# Altium footprint library TerminalBlock_WAGO.PcbLib: 170 footprints (part 5 of 11)
Each footprint in its own frame and in the unit in brackets; x right, y up, seen from the top. Pads: shape width x height; smd on the part's side, far side on the other; paste and mask are expansions set on the pad; w line width, h text height; cw(c..) or ccw(c..) is an arc to the next point about the centre after c.
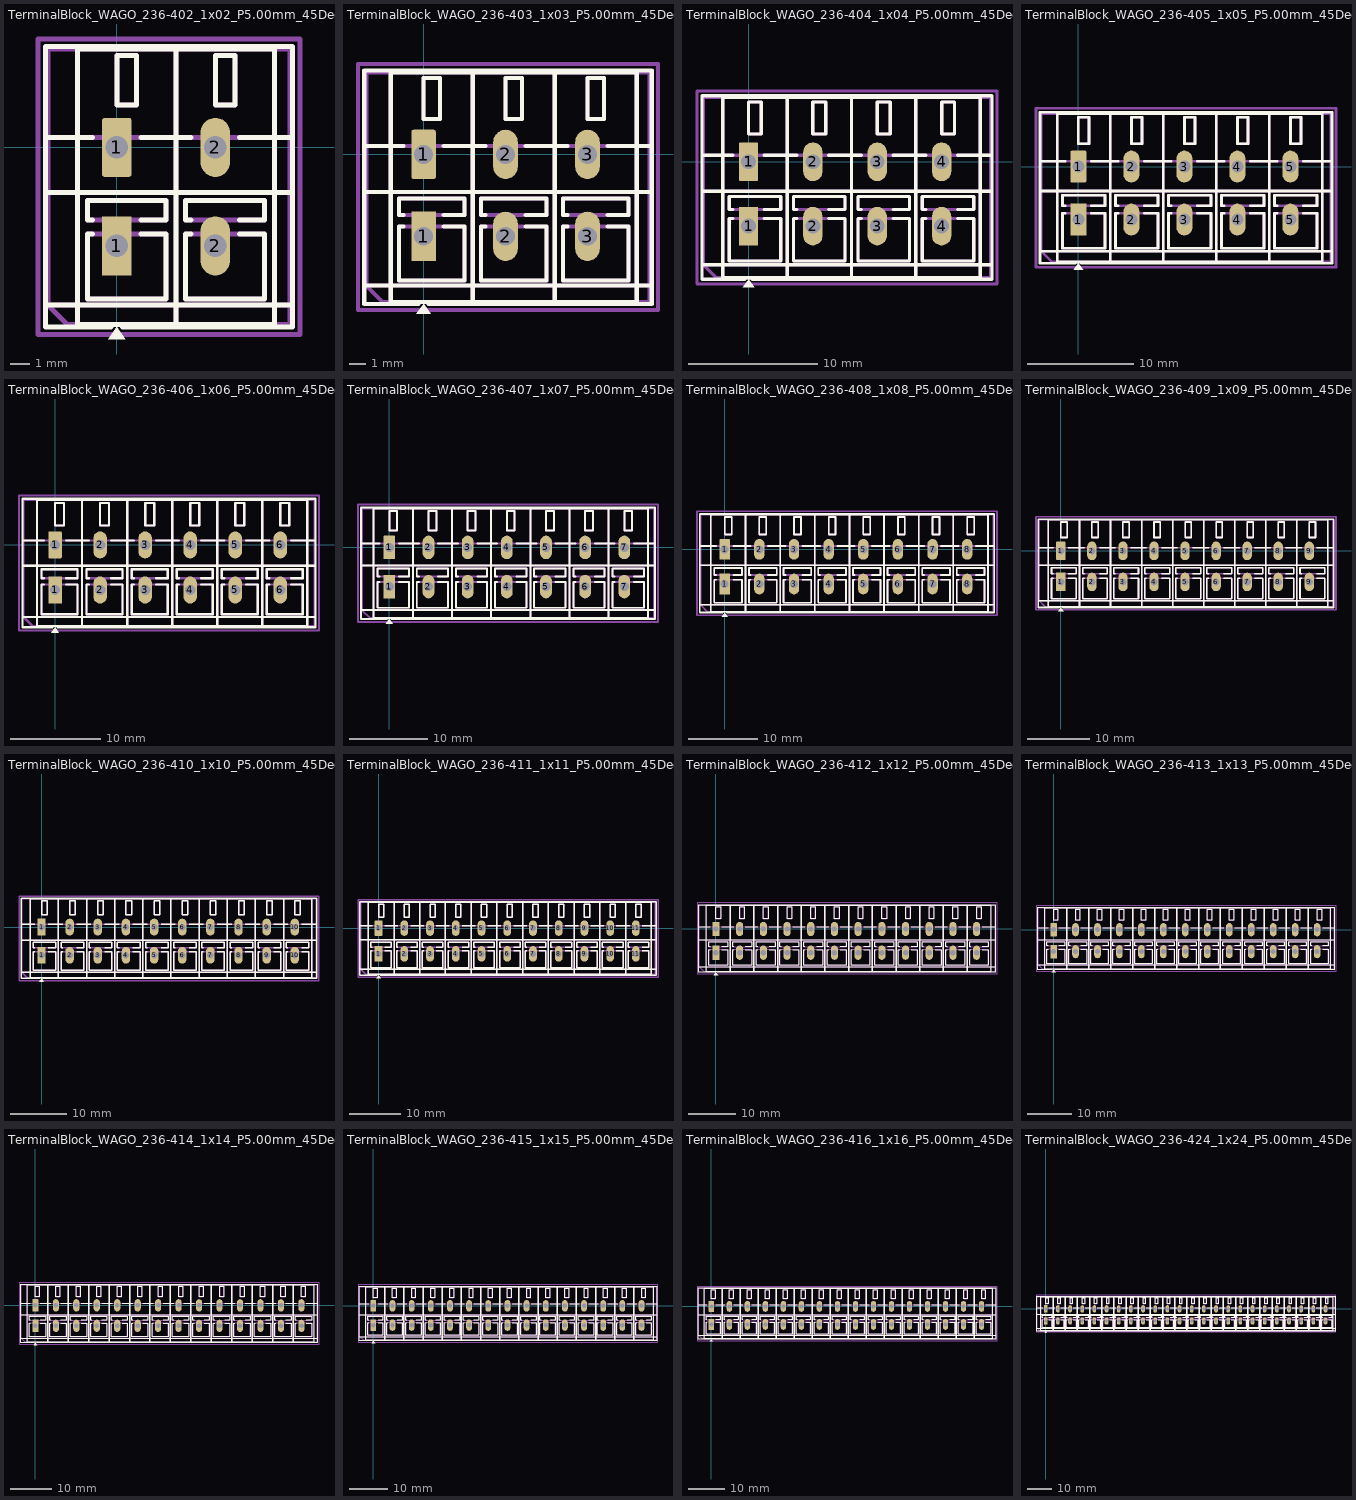
[diagram p4: the footprints below, top view; thin cyan lines are the x and y axes]

## TerminalBlock_WAGO_236-402_1x02_P5.00mm_45Degree [mm]
pads (4):
  rect 1.5x3 hole 1.15: 1(0,-5)
  rrect17% 1.5x3 hole 1.15: 1(0,0)
  rrect100% 1.5x3 hole 1.15: 2(5,-5) 2(5,0)
F.SilkS:
  region: 0.44,-9.73 -0.44,-9.73 0,-9.12
  lines w0.254: -3.62,-8 8.92,-8 ; -3.62,-2.3 8.92,-2.3 ; -3.62,0.5 -1.23,0.5 ; -1.23,-4.4 -1.5,-4.4 -1.5,-7.7 2.5,-7.7 2.5,-4.4 1.23,-4.4 ; -1.23,-3.7 -1.5,-3.7 -1.5,-2.7 2.5,-2.7 2.5,-3.7 1.23,-3.7 ; -0.3,-9.12 -3.62,-9.12 -3.62,5.12 8.92,5.12 8.92,-9.12 0.3,-9.12 ; 1.23,0.5 3.77,0.5 ; 3.77,-4.4 3.5,-4.4 3.5,-7.7 7.5,-7.7 7.5,-4.4 6.23,-4.4 ; 3.77,-3.7 3.5,-3.7 3.5,-2.7 7.5,-2.7 7.5,-3.7 6.23,-3.7 ; 6.23,0.5 8.92,0.5 ; 3,-9 3,5 ; 3,-9 -2,-9 -2,5 3,5 ; 3,-9 3,5 ; 3,-9 8,-9 8,5 3,5 ; 0,2.15 0,4.65 1,4.65 1,2.15 0,2.15 ; 5,2.15 5,4.65 6,4.65 6,2.15 5,2.15
F.Fab:
  lines w0.254: -3.5,-2.3 8.8,-2.3 ; -3.5,0.5 8.8,0.5 ; 8.8,-8 -3.5,-8 ; -3.5,-8 -3.5,5 8.8,5 8.8,-9 -2.5,-9 -3.5,-8 ; 3,-9 -2,-9 -2,5 3,5 ; 3,-9 3,5 ; 3,-9 3,5 ; 3,-9 8,-9 8,5 3,5 ; -1.5,-7.7 -1.5,-4.4 2.5,-4.4 2.5,-7.7 -1.5,-7.7 ; -1.5,-3.7 -1.5,-2.7 2.5,-2.7 2.5,-3.7 -1.5,-3.7 ; 0,2.15 0,4.65 1,4.65 1,2.15 0,2.15 ; 3.5,-7.7 3.5,-4.4 7.5,-4.4 7.5,-7.7 3.5,-7.7 ; 3.5,-3.7 3.5,-2.7 7.5,-2.7 7.5,-3.7 3.5,-3.7 ; 5,2.15 5,4.65 6,4.65 6,2.15 5,2.15
  text "'.Designator'" at -1.397,-1.84 h1
F.CrtYd:
  lines w0.254: -4,-9.5 -4,5.5 9.3,5.5 9.3,-9.5 -4,-9.5

## TerminalBlock_WAGO_236-403_1x03_P5.00mm_45Degree [mm]
pads (6):
  rect 1.5x3 hole 1.15: 1(0,-5)
  rrect17% 1.5x3 hole 1.15: 1(0,0)
  rrect100% 1.5x3 hole 1.15: 2(5,-5) 2(5,0) 3(10,-5) 3(10,0)
F.SilkS:
  region: 0.44,-9.73 -0.44,-9.73 0,-9.12
  lines w0.254: -3.62,-8 13.92,-8 ; -3.62,-2.3 13.92,-2.3 ; -3.62,0.5 -1.23,0.5 ; -1.23,-4.4 -1.5,-4.4 -1.5,-7.7 2.5,-7.7 2.5,-4.4 1.23,-4.4 ; -1.23,-3.7 -1.5,-3.7 -1.5,-2.7 2.5,-2.7 2.5,-3.7 1.23,-3.7 ; -0.3,-9.12 -3.62,-9.12 -3.62,5.12 13.92,5.12 13.92,-9.12 0.3,-9.12 ; 1.23,0.5 3.77,0.5 ; 3.77,-4.4 3.5,-4.4 3.5,-7.7 7.5,-7.7 7.5,-4.4 6.23,-4.4 ; 3.77,-3.7 3.5,-3.7 3.5,-2.7 7.5,-2.7 7.5,-3.7 6.23,-3.7 ; 6.23,0.5 8.77,0.5 ; 8.77,-4.4 8.5,-4.4 8.5,-7.7 12.5,-7.7 12.5,-4.4 11.23,-4.4 ; 8.77,-3.7 8.5,-3.7 8.5,-2.7 12.5,-2.7 12.5,-3.7 11.23,-3.7 ; 11.23,0.5 13.92,0.5 ; 3,-9 3,5 ; 3,-9 -2,-9 -2,5 3,5 ; 3,-9 3,5 ; 3,-9 8,-9 ; 3,5 8,5 ; 8,-9 8,5 ; 8,-9 8,5 ; 8,-9 13,-9 13,5 8,5 ; 0,2.15 0,4.65 1,4.65 1,2.15 0,2.15 ; 5,2.15 5,4.65 6,4.65 6,2.15 5,2.15 ; 10,2.15 10,4.65 11,4.65 11,2.15 10,2.15
F.Fab:
  lines w0.254: -3.5,-2.3 13.8,-2.3 ; -3.5,0.5 13.8,0.5 ; 13.8,-8 -3.5,-8 ; -3.5,-8 -3.5,5 13.8,5 13.8,-9 -2.5,-9 -3.5,-8 ; 3,-9 -2,-9 -2,5 3,5 ; 3,-9 3,5 ; 3,-9 3,5 ; 3,-9 8,-9 ; 3,5 8,5 ; 8,-9 8,5 ; 8,-9 8,5 ; 8,-9 13,-9 13,5 8,5 ; -1.5,-7.7 -1.5,-4.4 2.5,-4.4 2.5,-7.7 -1.5,-7.7 ; -1.5,-3.7 -1.5,-2.7 2.5,-2.7 2.5,-3.7 -1.5,-3.7 ; 0,2.15 0,4.65 1,4.65 1,2.15 0,2.15 ; 3.5,-7.7 3.5,-4.4 7.5,-4.4 7.5,-7.7 3.5,-7.7 ; 3.5,-3.7 3.5,-2.7 7.5,-2.7 7.5,-3.7 3.5,-3.7 ; 5,2.15 5,4.65 6,4.65 6,2.15 5,2.15 ; 8.5,-7.7 8.5,-4.4 12.5,-4.4 12.5,-7.7 8.5,-7.7 ; 8.5,-3.7 8.5,-2.7 12.5,-2.7 12.5,-3.7 8.5,-3.7 ; 10,2.15 10,4.65 11,4.65 11,2.15 10,2.15
  text "'.Designator'" at 1.103,-1.84 h1
F.CrtYd:
  lines w0.254: -4,-9.5 -4,5.5 14.3,5.5 14.3,-9.5 -4,-9.5

## TerminalBlock_WAGO_236-404_1x04_P5.00mm_45Degree [mm]
pads (8):
  rect 1.5x3 hole 1.15: 1(0,-5)
  rrect17% 1.5x3 hole 1.15: 1(0,0)
  rrect100% 1.5x3 hole 1.15: 2(5,-5) 2(5,0) 3(10,-5) 3(10,0) 4(15,-5) 4(15,0)
F.SilkS:
  region: 0.44,-9.73 -0.44,-9.73 0,-9.12
  lines w0.254: -3.62,-8 18.92,-8 ; -3.62,-2.3 18.92,-2.3 ; -3.62,0.5 -1.23,0.5 ; -1.23,-4.4 -1.5,-4.4 -1.5,-7.7 2.5,-7.7 2.5,-4.4 1.23,-4.4 ; -1.23,-3.7 -1.5,-3.7 -1.5,-2.7 2.5,-2.7 2.5,-3.7 1.23,-3.7 ; -0.3,-9.12 -3.62,-9.12 -3.62,5.12 18.92,5.12 18.92,-9.12 0.3,-9.12 ; 1.23,0.5 3.77,0.5 ; 3.77,-4.4 3.5,-4.4 3.5,-7.7 7.5,-7.7 7.5,-4.4 6.23,-4.4 ; 3.77,-3.7 3.5,-3.7 3.5,-2.7 7.5,-2.7 7.5,-3.7 6.23,-3.7 ; 6.23,0.5 8.77,0.5 ; 8.77,-4.4 8.5,-4.4 8.5,-7.7 12.5,-7.7 12.5,-4.4 11.23,-4.4 ; 8.77,-3.7 8.5,-3.7 8.5,-2.7 12.5,-2.7 12.5,-3.7 11.23,-3.7 ; 11.23,0.5 13.77,0.5 ; 13.77,-4.4 13.5,-4.4 13.5,-7.7 17.5,-7.7 17.5,-4.4 16.23,-4.4 ; 13.77,-3.7 13.5,-3.7 13.5,-2.7 17.5,-2.7 17.5,-3.7 16.23,-3.7 ; 16.23,0.5 18.92,0.5 ; 3,-9 3,5 ; 3,-9 -2,-9 -2,5 3,5 ; 3,-9 3,5 ; 3,-9 8,-9 ; 3,5 8,5 ; 8,-9 8,5 ; 8,-9 8,5 ; 8,-9 13,-9 ; 8,5 13,5 ; 13,-9 13,5 ; 13,-9 13,5 ; 13,-9 18,-9 18,5 13,5 ; 0,2.15 0,4.65 1,4.65 1,2.15 0,2.15 ; 5,2.15 5,4.65 6,4.65 6,2.15 5,2.15 ; 10,2.15 10,4.65 11,4.65 11,2.15 10,2.15 ; 15,2.15 15,4.65 16,4.65 16,2.15 15,2.15
F.Fab:
  lines w0.254: -3.5,-2.3 18.8,-2.3 ; -3.5,0.5 18.8,0.5 ; 18.8,-8 -3.5,-8 ; -3.5,-8 -3.5,5 18.8,5 18.8,-9 -2.5,-9 -3.5,-8 ; 3,-9 -2,-9 -2,5 3,5 ; 3,-9 3,5 ; 3,-9 3,5 ; 3,-9 8,-9 ; 3,5 8,5 ; 8,-9 8,5 ; 8,-9 8,5 ; 8,-9 13,-9 ; 8,5 13,5 ; 13,-9 13,5 ; 13,-9 13,5 ; 13,-9 18,-9 18,5 13,5 ; -1.5,-7.7 -1.5,-4.4 2.5,-4.4 2.5,-7.7 -1.5,-7.7 ; -1.5,-3.7 -1.5,-2.7 2.5,-2.7 2.5,-3.7 -1.5,-3.7 ; 0,2.15 0,4.65 1,4.65 1,2.15 0,2.15 ; 3.5,-7.7 3.5,-4.4 7.5,-4.4 7.5,-7.7 3.5,-7.7 ; 3.5,-3.7 3.5,-2.7 7.5,-2.7 7.5,-3.7 3.5,-3.7 ; 5,2.15 5,4.65 6,4.65 6,2.15 5,2.15 ; 8.5,-7.7 8.5,-4.4 12.5,-4.4 12.5,-7.7 8.5,-7.7 ; 8.5,-3.7 8.5,-2.7 12.5,-2.7 12.5,-3.7 8.5,-3.7 ; 10,2.15 10,4.65 11,4.65 11,2.15 10,2.15 ; 13.5,-7.7 13.5,-4.4 17.5,-4.4 17.5,-7.7 13.5,-7.7 ; 13.5,-3.7 13.5,-2.7 17.5,-2.7 17.5,-3.7 13.5,-3.7 ; 15,2.15 15,4.65 16,4.65 16,2.15 15,2.15
  text "'.Designator'" at 3.603,-1.84 h1
F.CrtYd:
  lines w0.254: -4,-9.5 -4,5.5 19.3,5.5 19.3,-9.5 -4,-9.5

## TerminalBlock_WAGO_236-405_1x05_P5.00mm_45Degree [mm]
pads (10):
  rect 1.5x3 hole 1.15: 1(0,-5)
  rrect17% 1.5x3 hole 1.15: 1(0,0)
  rrect100% 1.5x3 hole 1.15: 2(5,-5) 2(5,0) 3(10,-5) 3(10,0) 4(15,-5) 4(15,0) 5(20,-5) 5(20,0)
F.SilkS:
  region: 0.44,-9.73 -0.44,-9.73 0,-9.12
  lines w0.254: -3.62,-8 23.92,-8 ; -3.62,-2.3 23.92,-2.3 ; -3.62,0.5 -1.23,0.5 ; -1.23,-4.4 -1.5,-4.4 -1.5,-7.7 2.5,-7.7 2.5,-4.4 1.23,-4.4 ; -1.23,-3.7 -1.5,-3.7 -1.5,-2.7 2.5,-2.7 2.5,-3.7 1.23,-3.7 ; -0.3,-9.12 -3.62,-9.12 -3.62,5.12 23.92,5.12 23.92,-9.12 0.3,-9.12 ; 1.23,0.5 3.77,0.5 ; 3.77,-4.4 3.5,-4.4 3.5,-7.7 7.5,-7.7 7.5,-4.4 6.23,-4.4 ; 3.77,-3.7 3.5,-3.7 3.5,-2.7 7.5,-2.7 7.5,-3.7 6.23,-3.7 ; 6.23,0.5 8.77,0.5 ; 8.77,-4.4 8.5,-4.4 8.5,-7.7 12.5,-7.7 12.5,-4.4 11.23,-4.4 ; 8.77,-3.7 8.5,-3.7 8.5,-2.7 12.5,-2.7 12.5,-3.7 11.23,-3.7 ; 11.23,0.5 13.77,0.5 ; 13.77,-4.4 13.5,-4.4 13.5,-7.7 17.5,-7.7 17.5,-4.4 16.23,-4.4 ; 13.77,-3.7 13.5,-3.7 13.5,-2.7 17.5,-2.7 17.5,-3.7 16.23,-3.7 ; 16.23,0.5 18.77,0.5 ; 18.77,-4.4 18.5,-4.4 18.5,-7.7 22.5,-7.7 22.5,-4.4 21.23,-4.4 ; 18.77,-3.7 18.5,-3.7 18.5,-2.7 22.5,-2.7 22.5,-3.7 21.23,-3.7 ; 21.23,0.5 23.92,0.5 ; 3,-9 3,5 ; 3,-9 -2,-9 -2,5 3,5 ; 3,-9 3,5 ; 3,-9 8,-9 ; 3,5 8,5 ; 8,-9 8,5 ; 8,-9 8,5 ; 8,-9 13,-9 ; 8,5 13,5 ; 13,-9 13,5 ; 13,-9 13,5 ; 13,-9 18,-9 ; 13,5 18,5 ; 18,-9 18,5 ; 18,-9 18,5 ; 18,-9 23,-9 23,5 18,5 ; 0,2.15 0,4.65 1,4.65 1,2.15 0,2.15 ; 5,2.15 5,4.65 6,4.65 6,2.15 5,2.15 ; 10,2.15 10,4.65 11,4.65 11,2.15 10,2.15 ; 15,2.15 15,4.65 16,4.65 16,2.15 15,2.15 ; 20,2.15 20,4.65 21,4.65 21,2.15 20,2.15
F.Fab:
  lines w0.254: -3.5,-2.3 23.8,-2.3 ; -3.5,0.5 23.8,0.5 ; 23.8,-8 -3.5,-8 ; -3.5,-8 -3.5,5 23.8,5 23.8,-9 -2.5,-9 -3.5,-8 ; 3,-9 -2,-9 -2,5 3,5 ; 3,-9 3,5 ; 3,-9 3,5 ; 3,-9 8,-9 ; 3,5 8,5 ; 8,-9 8,5 ; 8,-9 8,5 ; 8,-9 13,-9 ; 8,5 13,5 ; 13,-9 13,5 ; 13,-9 13,5 ; 13,-9 18,-9 ; 13,5 18,5 ; 18,-9 18,5 ; 18,-9 18,5 ; 18,-9 23,-9 23,5 18,5 ; -1.5,-7.7 -1.5,-4.4 2.5,-4.4 2.5,-7.7 -1.5,-7.7 ; -1.5,-3.7 -1.5,-2.7 2.5,-2.7 2.5,-3.7 -1.5,-3.7 ; 0,2.15 0,4.65 1,4.65 1,2.15 0,2.15 ; 3.5,-7.7 3.5,-4.4 7.5,-4.4 7.5,-7.7 3.5,-7.7 ; 3.5,-3.7 3.5,-2.7 7.5,-2.7 7.5,-3.7 3.5,-3.7 ; 5,2.15 5,4.65 6,4.65 6,2.15 5,2.15 ; 8.5,-7.7 8.5,-4.4 12.5,-4.4 12.5,-7.7 8.5,-7.7 ; 8.5,-3.7 8.5,-2.7 12.5,-2.7 12.5,-3.7 8.5,-3.7 ; 10,2.15 10,4.65 11,4.65 11,2.15 10,2.15 ; 13.5,-7.7 13.5,-4.4 17.5,-4.4 17.5,-7.7 13.5,-7.7 ; 13.5,-3.7 13.5,-2.7 17.5,-2.7 17.5,-3.7 13.5,-3.7 ; 15,2.15 15,4.65 16,4.65 16,2.15 15,2.15 ; 18.5,-7.7 18.5,-4.4 22.5,-4.4 22.5,-7.7 18.5,-7.7 ; 18.5,-3.7 18.5,-2.7 22.5,-2.7 22.5,-3.7 18.5,-3.7 ; 20,2.15 20,4.65 21,4.65 21,2.15 20,2.15
  text "'.Designator'" at 6.103,-1.84 h1
F.CrtYd:
  lines w0.254: -4,-9.5 -4,5.5 24.3,5.5 24.3,-9.5 -4,-9.5

## TerminalBlock_WAGO_236-406_1x06_P5.00mm_45Degree [mm]
pads (12):
  rect 1.5x3 hole 1.15: 1(0,-5)
  rrect17% 1.5x3 hole 1.15: 1(0,0)
  rrect100% 1.5x3 hole 1.15: 2(5,-5) 2(5,0) 3(10,-5) 3(10,0) 4(15,-5) 4(15,0) 5(20,-5) 5(20,0) 6(25,-5) 6(25,0)
F.SilkS:
  region: 0.44,-9.73 -0.44,-9.73 0,-9.12
  lines w0.254: -3.62,-8 28.92,-8 ; -3.62,-2.3 28.92,-2.3 ; -3.62,0.5 -1.23,0.5 ; -1.23,-4.4 -1.5,-4.4 -1.5,-7.7 2.5,-7.7 2.5,-4.4 1.23,-4.4 ; -1.23,-3.7 -1.5,-3.7 -1.5,-2.7 2.5,-2.7 2.5,-3.7 1.23,-3.7 ; -0.3,-9.12 -3.62,-9.12 -3.62,5.12 28.92,5.12 28.92,-9.12 0.3,-9.12 ; 1.23,0.5 3.77,0.5 ; 3.77,-4.4 3.5,-4.4 3.5,-7.7 7.5,-7.7 7.5,-4.4 6.23,-4.4 ; 3.77,-3.7 3.5,-3.7 3.5,-2.7 7.5,-2.7 7.5,-3.7 6.23,-3.7 ; 6.23,0.5 8.77,0.5 ; 8.77,-4.4 8.5,-4.4 8.5,-7.7 12.5,-7.7 12.5,-4.4 11.23,-4.4 ; 8.77,-3.7 8.5,-3.7 8.5,-2.7 12.5,-2.7 12.5,-3.7 11.23,-3.7 ; 11.23,0.5 13.77,0.5 ; 13.77,-4.4 13.5,-4.4 13.5,-7.7 17.5,-7.7 17.5,-4.4 16.23,-4.4 ; 13.77,-3.7 13.5,-3.7 13.5,-2.7 17.5,-2.7 17.5,-3.7 16.23,-3.7 ; 16.23,0.5 18.77,0.5 ; 18.77,-4.4 18.5,-4.4 18.5,-7.7 22.5,-7.7 22.5,-4.4 21.23,-4.4 ; 18.77,-3.7 18.5,-3.7 18.5,-2.7 22.5,-2.7 22.5,-3.7 21.23,-3.7 ; 21.23,0.5 23.77,0.5 ; 23.77,-4.4 23.5,-4.4 23.5,-7.7 27.5,-7.7 27.5,-4.4 26.23,-4.4 ; 23.77,-3.7 23.5,-3.7 23.5,-2.7 27.5,-2.7 27.5,-3.7 26.23,-3.7 ; 26.23,0.5 28.92,0.5 ; 3,-9 3,5 ; 3,-9 -2,-9 -2,5 3,5 ; 3,-9 3,5 ; 3,-9 8,-9 ; 3,5 8,5 ; 8,-9 8,5 ; 8,-9 8,5 ; 8,-9 13,-9 ; 8,5 13,5 ; 13,-9 13,5 ; 13,-9 13,5 ; 13,-9 18,-9 ; 13,5 18,5 ; 18,-9 18,5 ; 18,-9 18,5 ; 18,-9 23,-9 ; 18,5 23,5 ; 23,-9 23,5 ; 23,-9 23,5 ; 23,-9 28,-9 28,5 23,5 ; 0,2.15 0,4.65 1,4.65 1,2.15 0,2.15 ; 5,2.15 5,4.65 6,4.65 6,2.15 5,2.15 ; 10,2.15 10,4.65 11,4.65 11,2.15 10,2.15 ; 15,2.15 15,4.65 16,4.65 16,2.15 15,2.15 ; 20,2.15 20,4.65 21,4.65 21,2.15 20,2.15 ; 25,2.15 25,4.65 26,4.65 26,2.15 25,2.15
F.Fab:
  lines w0.254: -3.5,-2.3 28.8,-2.3 ; -3.5,0.5 28.8,0.5 ; 28.8,-8 -3.5,-8 ; -3.5,-8 -3.5,5 28.8,5 28.8,-9 -2.5,-9 -3.5,-8 ; 3,-9 -2,-9 -2,5 3,5 ; 3,-9 3,5 ; 3,-9 3,5 ; 3,-9 8,-9 ; 3,5 8,5 ; 8,-9 8,5 ; 8,-9 8,5 ; 8,-9 13,-9 ; 8,5 13,5 ; 13,-9 13,5 ; 13,-9 13,5 ; 13,-9 18,-9 ; 13,5 18,5 ; 18,-9 18,5 ; 18,-9 18,5 ; 18,-9 23,-9 ; 18,5 23,5 ; 23,-9 23,5 ; 23,-9 23,5 ; 23,-9 28,-9 28,5 23,5 ; -1.5,-7.7 -1.5,-4.4 2.5,-4.4 2.5,-7.7 -1.5,-7.7 ; -1.5,-3.7 -1.5,-2.7 2.5,-2.7 2.5,-3.7 -1.5,-3.7 ; 0,2.15 0,4.65 1,4.65 1,2.15 0,2.15 ; 3.5,-7.7 3.5,-4.4 7.5,-4.4 7.5,-7.7 3.5,-7.7 ; 3.5,-3.7 3.5,-2.7 7.5,-2.7 7.5,-3.7 3.5,-3.7 ; 5,2.15 5,4.65 6,4.65 6,2.15 5,2.15 ; 8.5,-7.7 8.5,-4.4 12.5,-4.4 12.5,-7.7 8.5,-7.7 ; 8.5,-3.7 8.5,-2.7 12.5,-2.7 12.5,-3.7 8.5,-3.7 ; 10,2.15 10,4.65 11,4.65 11,2.15 10,2.15 ; 13.5,-7.7 13.5,-4.4 17.5,-4.4 17.5,-7.7 13.5,-7.7 ; 13.5,-3.7 13.5,-2.7 17.5,-2.7 17.5,-3.7 13.5,-3.7 ; 15,2.15 15,4.65 16,4.65 16,2.15 15,2.15 ; 18.5,-7.7 18.5,-4.4 22.5,-4.4 22.5,-7.7 18.5,-7.7 ; 18.5,-3.7 18.5,-2.7 22.5,-2.7 22.5,-3.7 18.5,-3.7 ; 20,2.15 20,4.65 21,4.65 21,2.15 20,2.15 ; 23.5,-7.7 23.5,-4.4 27.5,-4.4 27.5,-7.7 23.5,-7.7 ; 23.5,-3.7 23.5,-2.7 27.5,-2.7 27.5,-3.7 23.5,-3.7 ; 25,2.15 25,4.65 26,4.65 26,2.15 25,2.15
  text "'.Designator'" at 8.603,-1.84 h1
F.CrtYd:
  lines w0.254: -4,-9.5 -4,5.5 29.3,5.5 29.3,-9.5 -4,-9.5

## TerminalBlock_WAGO_236-407_1x07_P5.00mm_45Degree [mm]
pads (14):
  rect 1.5x3 hole 1.15: 1(0,-5)
  rrect17% 1.5x3 hole 1.15: 1(0,0)
  rrect100% 1.5x3 hole 1.15: 2(5,-5) 2(5,0) 3(10,-5) 3(10,0) 4(15,-5) 4(15,0) 5(20,-5) 5(20,0) 6(25,-5) 6(25,0) 7(30,-5) 7(30,0)
F.SilkS:
  region: 0.44,-9.73 -0.44,-9.73 0,-9.12
  lines w0.254: -3.62,-8 33.92,-8 ; -3.62,-2.3 33.92,-2.3 ; -3.62,0.5 -1.23,0.5 ; -1.23,-4.4 -1.5,-4.4 -1.5,-7.7 2.5,-7.7 2.5,-4.4 1.23,-4.4 ; -1.23,-3.7 -1.5,-3.7 -1.5,-2.7 2.5,-2.7 2.5,-3.7 1.23,-3.7 ; -0.3,-9.12 -3.62,-9.12 -3.62,5.12 33.92,5.12 33.92,-9.12 0.3,-9.12 ; 1.23,0.5 3.77,0.5 ; 3.77,-4.4 3.5,-4.4 3.5,-7.7 7.5,-7.7 7.5,-4.4 6.23,-4.4 ; 3.77,-3.7 3.5,-3.7 3.5,-2.7 7.5,-2.7 7.5,-3.7 6.23,-3.7 ; 6.23,0.5 8.77,0.5 ; 8.77,-4.4 8.5,-4.4 8.5,-7.7 12.5,-7.7 12.5,-4.4 11.23,-4.4 ; 8.77,-3.7 8.5,-3.7 8.5,-2.7 12.5,-2.7 12.5,-3.7 11.23,-3.7 ; 11.23,0.5 13.77,0.5 ; 13.77,-4.4 13.5,-4.4 13.5,-7.7 17.5,-7.7 17.5,-4.4 16.23,-4.4 ; 13.77,-3.7 13.5,-3.7 13.5,-2.7 17.5,-2.7 17.5,-3.7 16.23,-3.7 ; 16.23,0.5 18.77,0.5 ; 18.77,-4.4 18.5,-4.4 18.5,-7.7 22.5,-7.7 22.5,-4.4 21.23,-4.4 ; 18.77,-3.7 18.5,-3.7 18.5,-2.7 22.5,-2.7 22.5,-3.7 21.23,-3.7 ; 21.23,0.5 23.77,0.5 ; 23.77,-4.4 23.5,-4.4 23.5,-7.7 27.5,-7.7 27.5,-4.4 26.23,-4.4 ; 23.77,-3.7 23.5,-3.7 23.5,-2.7 27.5,-2.7 27.5,-3.7 26.23,-3.7 ; 26.23,0.5 28.77,0.5 ; 28.77,-4.4 28.5,-4.4 28.5,-7.7 32.5,-7.7 32.5,-4.4 31.23,-4.4 ; 28.77,-3.7 28.5,-3.7 28.5,-2.7 32.5,-2.7 32.5,-3.7 31.23,-3.7 ; 31.23,0.5 33.92,0.5 ; 3,-9 3,5 ; 3,-9 -2,-9 -2,5 3,5 ; 3,-9 3,5 ; 3,-9 8,-9 ; 3,5 8,5 ; 8,-9 8,5 ; 8,-9 8,5 ; 8,-9 13,-9 ; 8,5 13,5 ; 13,-9 13,5 ; 13,-9 13,5 ; 13,-9 18,-9 ; 13,5 18,5 ; 18,-9 18,5 ; 18,-9 18,5 ; 18,-9 23,-9 ; 18,5 23,5 ; 23,-9 23,5 ; 23,-9 23,5 ; 23,-9 28,-9 ; 23,5 28,5 ; 28,-9 28,5 ; 28,-9 28,5 ; 28,-9 33,-9 33,5 28,5 ; 0,2.15 0,4.65 1,4.65 1,2.15 0,2.15 ; 5,2.15 5,4.65 6,4.65 6,2.15 5,2.15 ; 10,2.15 10,4.65 11,4.65 11,2.15 10,2.15 ; 15,2.15 15,4.65 16,4.65 16,2.15 15,2.15 ; 20,2.15 20,4.65 21,4.65 21,2.15 20,2.15 ; 25,2.15 25,4.65 26,4.65 26,2.15 25,2.15 ; 30,2.15 30,4.65 31,4.65 31,2.15 30,2.15
F.Fab:
  lines w0.254: -3.5,-2.3 33.8,-2.3 ; -3.5,0.5 33.8,0.5 ; 33.8,-8 -3.5,-8 ; -3.5,-8 -3.5,5 33.8,5 33.8,-9 -2.5,-9 -3.5,-8 ; 3,-9 -2,-9 -2,5 3,5 ; 3,-9 3,5 ; 3,-9 3,5 ; 3,-9 8,-9 ; 3,5 8,5 ; 8,-9 8,5 ; 8,-9 8,5 ; 8,-9 13,-9 ; 8,5 13,5 ; 13,-9 13,5 ; 13,-9 13,5 ; 13,-9 18,-9 ; 13,5 18,5 ; 18,-9 18,5 ; 18,-9 18,5 ; 18,-9 23,-9 ; 18,5 23,5 ; 23,-9 23,5 ; 23,-9 23,5 ; 23,-9 28,-9 ; 23,5 28,5 ; 28,-9 28,5 ; 28,-9 28,5 ; 28,-9 33,-9 33,5 28,5 ; -1.5,-7.7 -1.5,-4.4 2.5,-4.4 2.5,-7.7 -1.5,-7.7 ; -1.5,-3.7 -1.5,-2.7 2.5,-2.7 2.5,-3.7 -1.5,-3.7 ; 0,2.15 0,4.65 1,4.65 1,2.15 0,2.15 ; 3.5,-7.7 3.5,-4.4 7.5,-4.4 7.5,-7.7 3.5,-7.7 ; 3.5,-3.7 3.5,-2.7 7.5,-2.7 7.5,-3.7 3.5,-3.7 ; 5,2.15 5,4.65 6,4.65 6,2.15 5,2.15 ; 8.5,-7.7 8.5,-4.4 12.5,-4.4 12.5,-7.7 8.5,-7.7 ; 8.5,-3.7 8.5,-2.7 12.5,-2.7 12.5,-3.7 8.5,-3.7 ; 10,2.15 10,4.65 11,4.65 11,2.15 10,2.15 ; 13.5,-7.7 13.5,-4.4 17.5,-4.4 17.5,-7.7 13.5,-7.7 ; 13.5,-3.7 13.5,-2.7 17.5,-2.7 17.5,-3.7 13.5,-3.7 ; 15,2.15 15,4.65 16,4.65 16,2.15 15,2.15 ; 18.5,-7.7 18.5,-4.4 22.5,-4.4 22.5,-7.7 18.5,-7.7 ; 18.5,-3.7 18.5,-2.7 22.5,-2.7 22.5,-3.7 18.5,-3.7 ; 20,2.15 20,4.65 21,4.65 21,2.15 20,2.15 ; 23.5,-7.7 23.5,-4.4 27.5,-4.4 27.5,-7.7 23.5,-7.7 ; 23.5,-3.7 23.5,-2.7 27.5,-2.7 27.5,-3.7 23.5,-3.7 ; 25,2.15 25,4.65 26,4.65 26,2.15 25,2.15 ; 28.5,-7.7 28.5,-4.4 32.5,-4.4 32.5,-7.7 28.5,-7.7 ; 28.5,-3.7 28.5,-2.7 32.5,-2.7 32.5,-3.7 28.5,-3.7 ; 30,2.15 30,4.65 31,4.65 31,2.15 30,2.15
  text "'.Designator'" at 11.103,-1.84 h1
F.CrtYd:
  lines w0.254: -4,-9.5 -4,5.5 34.3,5.5 34.3,-9.5 -4,-9.5

## TerminalBlock_WAGO_236-408_1x08_P5.00mm_45Degree [mm]
pads (16):
  rect 1.5x3 hole 1.15: 1(0,-5)
  rrect17% 1.5x3 hole 1.15: 1(0,0)
  rrect100% 1.5x3 hole 1.15: 2(5,-5) 2(5,0) 3(10,-5) 3(10,0) 4(15,-5) 4(15,0) 5(20,-5) 5(20,0) 6(25,-5) 6(25,0) 7(30,-5) 7(30,0) 8(35,-5) 8(35,0)
F.SilkS:
  drawing of 161 lines, arcs and shapes, not listed
F.Fab:
  lines w0.254: -3.5,-2.3 38.8,-2.3 ; -3.5,0.5 38.8,0.5 ; 38.8,-8 -3.5,-8 ; -3.5,-8 -3.5,5 38.8,5 38.8,-9 -2.5,-9 -3.5,-8 ; 3,-9 -2,-9 -2,5 3,5 ; 3,-9 3,5 ; 3,-9 3,5 ; 3,-9 8,-9 ; 3,5 8,5 ; 8,-9 8,5 ; 8,-9 8,5 ; 8,-9 13,-9 ; 8,5 13,5 ; 13,-9 13,5 ; 13,-9 13,5 ; 13,-9 18,-9 ; 13,5 18,5 ; 18,-9 18,5 ; 18,-9 18,5 ; 18,-9 23,-9 ; 18,5 23,5 ; 23,-9 23,5 ; 23,-9 23,5 ; 23,-9 28,-9 ; 23,5 28,5 ; 28,-9 28,5 ; 28,-9 28,5 ; 28,-9 33,-9 ; 28,5 33,5 ; 33,-9 33,5 ; 33,-9 33,5 ; 33,-9 38,-9 38,5 33,5 ; -1.5,-7.7 -1.5,-4.4 2.5,-4.4 2.5,-7.7 -1.5,-7.7 ; -1.5,-3.7 -1.5,-2.7 2.5,-2.7 2.5,-3.7 -1.5,-3.7 ; 0,2.15 0,4.65 1,4.65 1,2.15 0,2.15 ; 3.5,-7.7 3.5,-4.4 7.5,-4.4 7.5,-7.7 3.5,-7.7 ; 3.5,-3.7 3.5,-2.7 7.5,-2.7 7.5,-3.7 3.5,-3.7 ; 5,2.15 5,4.65 6,4.65 6,2.15 5,2.15 ; 8.5,-7.7 8.5,-4.4 12.5,-4.4 12.5,-7.7 8.5,-7.7 ; 8.5,-3.7 8.5,-2.7 12.5,-2.7 12.5,-3.7 8.5,-3.7 ; 10,2.15 10,4.65 11,4.65 11,2.15 10,2.15 ; 13.5,-7.7 13.5,-4.4 17.5,-4.4 17.5,-7.7 13.5,-7.7 ; 13.5,-3.7 13.5,-2.7 17.5,-2.7 17.5,-3.7 13.5,-3.7 ; 15,2.15 15,4.65 16,4.65 16,2.15 15,2.15 ; 18.5,-7.7 18.5,-4.4 22.5,-4.4 22.5,-7.7 18.5,-7.7 ; 18.5,-3.7 18.5,-2.7 22.5,-2.7 22.5,-3.7 18.5,-3.7 ; 20,2.15 20,4.65 21,4.65 21,2.15 20,2.15 ; 23.5,-7.7 23.5,-4.4 27.5,-4.4 27.5,-7.7 23.5,-7.7 ; 23.5,-3.7 23.5,-2.7 27.5,-2.7 27.5,-3.7 23.5,-3.7 ; 25,2.15 25,4.65 26,4.65 26,2.15 25,2.15 ; 28.5,-7.7 28.5,-4.4 32.5,-4.4 32.5,-7.7 28.5,-7.7 ; 28.5,-3.7 28.5,-2.7 32.5,-2.7 32.5,-3.7 28.5,-3.7 ; 30,2.15 30,4.65 31,4.65 31,2.15 30,2.15 ; 33.5,-7.7 33.5,-4.4 37.5,-4.4 37.5,-7.7 33.5,-7.7 ; 33.5,-3.7 33.5,-2.7 37.5,-2.7 37.5,-3.7 33.5,-3.7 ; 35,2.15 35,4.65 36,4.65 36,2.15 35,2.15
  text "'.Designator'" at 13.603,-1.84 h1
F.CrtYd:
  lines w0.254: -4,-9.5 -4,5.5 39.3,5.5 39.3,-9.5 -4,-9.5

## TerminalBlock_WAGO_236-409_1x09_P5.00mm_45Degree [mm]
pads (18):
  rect 1.5x3 hole 1.15: 1(0,-5)
  rrect17% 1.5x3 hole 1.15: 1(0,0)
  rrect100% 1.5x3 hole 1.15: 2(5,-5) 2(5,0) 3(10,-5) 3(10,0) 4(15,-5) 4(15,0) 5(20,-5) 5(20,0) 6(25,-5) 6(25,0) 7(30,-5) 7(30,0) 8(35,-5) 8(35,0) 9(40,-5) 9(40,0)
F.SilkS:
  drawing of 180 lines, arcs and shapes, not listed
F.Fab:
  drawing of 152 lines, arcs and shapes, not listed
  text "'.Designator'" at 16.103,-1.84 h1
F.CrtYd:
  lines w0.254: -4,-9.5 -4,5.5 44.3,5.5 44.3,-9.5 -4,-9.5

## TerminalBlock_WAGO_236-410_1x10_P5.00mm_45Degree [mm]
pads (20):
  rect 1.5x3 hole 1.15: 1(0,-5)
  rrect17% 1.5x3 hole 1.15: 1(0,0)
  rrect100% 1.5x3 hole 1.15: 2(5,-5) 2(5,0) 3(10,-5) 3(10,0) 4(15,-5) 4(15,0) 5(20,-5) 5(20,0) 6(25,-5) 6(25,0) 7(30,-5) 7(30,0) 8(35,-5) 8(35,0) 9(40,-5) 9(40,0) 10(45,-5) 10(45,0)
F.SilkS:
  drawing of 199 lines, arcs and shapes, not listed
F.Fab:
  drawing of 168 lines, arcs and shapes, not listed
  text "'.Designator'" at 18.603,-1.84 h1
F.CrtYd:
  lines w0.254: -4,-9.5 -4,5.5 49.3,5.5 49.3,-9.5 -4,-9.5

## TerminalBlock_WAGO_236-411_1x11_P5.00mm_45Degree [mm]
pads (22):
  rect 1.5x3 hole 1.15: 1(0,-5)
  rrect17% 1.5x3 hole 1.15: 1(0,0)
  rrect100% 1.5x3 hole 1.15: 2(5,-5) 2(5,0) 3(10,-5) 3(10,0) 4(15,-5) 4(15,0) 5(20,-5) 5(20,0) 6(25,-5) 6(25,0) 7(30,-5) 7(30,0) 8(35,-5) 8(35,0) 9(40,-5) 9(40,0) 10(45,-5) 10(45,0) 11(50,-5) 11(50,0)
F.SilkS:
  drawing of 218 lines, arcs and shapes, not listed
F.Fab:
  drawing of 184 lines, arcs and shapes, not listed
  text "'.Designator'" at 21.103,-1.84 h1
F.CrtYd:
  lines w0.254: -4,-9.5 -4,5.5 54.3,5.5 54.3,-9.5 -4,-9.5

## TerminalBlock_WAGO_236-412_1x12_P5.00mm_45Degree [mm]
pads (24):
  rect 1.5x3 hole 1.15: 1(0,-5)
  rrect17% 1.5x3 hole 1.15: 1(0,0)
  rrect100% 1.5x3 hole 1.15: 2(5,-5) 2(5,0) 3(10,-5) 3(10,0) 4(15,-5) 4(15,0) 5(20,-5) 5(20,0) 6(25,-5) 6(25,0) 7(30,-5) 7(30,0) 8(35,-5) 8(35,0) 9(40,-5) 9(40,0) 10(45,-5) 10(45,0) 11(50,-5) 11(50,0) 12(55,-5) 12(55,0)
F.SilkS:
  drawing of 237 lines, arcs and shapes, not listed
F.Fab:
  drawing of 200 lines, arcs and shapes, not listed
  text "'.Designator'" at 23.603,-1.84 h1
F.CrtYd:
  lines w0.254: -4,-9.5 -4,5.5 59.3,5.5 59.3,-9.5 -4,-9.5

## TerminalBlock_WAGO_236-413_1x13_P5.00mm_45Degree [mm]
pads (26):
  rect 1.5x3 hole 1.15: 1(0,-5)
  rrect17% 1.5x3 hole 1.15: 1(0,0)
  rrect100% 1.5x3 hole 1.15: 2(5,-5) 2(5,0) 3(10,-5) 3(10,0) 4(15,-5) 4(15,0) 5(20,-5) 5(20,0) 6(25,-5) 6(25,0) 7(30,-5) 7(30,0) 8(35,-5) 8(35,0) 9(40,-5) 9(40,0) 10(45,-5) 10(45,0) 11(50,-5) 11(50,0) 12(55,-5) 12(55,0) 13(60,-5) 13(60,0)
F.SilkS:
  drawing of 256 lines, arcs and shapes, not listed
F.Fab:
  drawing of 216 lines, arcs and shapes, not listed
  text "'.Designator'" at 26.103,-1.84 h1
F.CrtYd:
  lines w0.254: -4,-9.5 -4,5.5 64.3,5.5 64.3,-9.5 -4,-9.5

## TerminalBlock_WAGO_236-414_1x14_P5.00mm_45Degree [mm]
pads (28):
  rect 1.5x3 hole 1.15: 1(0,-5)
  rrect17% 1.5x3 hole 1.15: 1(0,0)
  rrect100% 1.5x3 hole 1.15: 2(5,-5) 2(5,0) 3(10,-5) 3(10,0) 4(15,-5) 4(15,0) 5(20,-5) 5(20,0) 6(25,-5) 6(25,0) 7(30,-5) 7(30,0) 8(35,-5) 8(35,0) 9(40,-5) 9(40,0) 10(45,-5) 10(45,0) 11(50,-5) 11(50,0) 12(55,-5) 12(55,0) 13(60,-5) 13(60,0) 14(65,-5) 14(65,0)
F.SilkS:
  drawing of 275 lines, arcs and shapes, not listed
F.Fab:
  drawing of 232 lines, arcs and shapes, not listed
  text "'.Designator'" at 28.603,-1.84 h1
F.CrtYd:
  lines w0.254: -4,-9.5 -4,5.5 69.3,5.5 69.3,-9.5 -4,-9.5

## TerminalBlock_WAGO_236-415_1x15_P5.00mm_45Degree [mm]
pads (30):
  rect 1.5x3 hole 1.15: 1(0,-5)
  rrect17% 1.5x3 hole 1.15: 1(0,0)
  rrect100% 1.5x3 hole 1.15: 2(5,-5) 2(5,0) 3(10,-5) 3(10,0) 4(15,-5) 4(15,0) 5(20,-5) 5(20,0) 6(25,-5) 6(25,0) 7(30,-5) 7(30,0) 8(35,-5) 8(35,0) 9(40,-5) 9(40,0) 10(45,-5) 10(45,0) 11(50,-5) 11(50,0) 12(55,-5) 12(55,0) 13(60,-5) 13(60,0) 14(65,-5) 14(65,0) 15(70,-5) 15(70,0)
F.SilkS:
  drawing of 294 lines, arcs and shapes, not listed
F.Fab:
  drawing of 248 lines, arcs and shapes, not listed
  text "'.Designator'" at 31.103,-1.84 h1
F.CrtYd:
  lines w0.254: -4,-9.5 -4,5.5 74.3,5.5 74.3,-9.5 -4,-9.5

## TerminalBlock_WAGO_236-416_1x16_P5.00mm_45Degree [mm]
pads (32):
  rect 1.5x3 hole 1.15: 1(0,-5)
  rrect17% 1.5x3 hole 1.15: 1(0,0)
  rrect100% 1.5x3 hole 1.15: 2(5,-5) 2(5,0) 3(10,-5) 3(10,0) 4(15,-5) 4(15,0) 5(20,-5) 5(20,0) 6(25,-5) 6(25,0) 7(30,-5) 7(30,0) 8(35,-5) 8(35,0) 9(40,-5) 9(40,0) 10(45,-5) 10(45,0) 11(50,-5) 11(50,0) 12(55,-5) 12(55,0) 13(60,-5) 13(60,0) 14(65,-5) 14(65,0) 15(70,-5) 15(70,0) 16(75,-5) 16(75,0)
F.SilkS:
  drawing of 313 lines, arcs and shapes, not listed
F.Fab:
  drawing of 264 lines, arcs and shapes, not listed
  text "'.Designator'" at 33.603,-1.84 h1
F.CrtYd:
  lines w0.254: -4,-9.5 -4,5.5 79.3,5.5 79.3,-9.5 -4,-9.5

## TerminalBlock_WAGO_236-424_1x24_P5.00mm_45Degree [mm]
pads (48):
  rect 1.5x3 hole 1.15: 1(0,-5)
  rrect17% 1.5x3 hole 1.15: 1(0,0)
  rrect100% 1.5x3 hole 1.15: 2(5,-5) 2(5,0) 3(10,-5) 3(10,0) 4(15,-5) 4(15,0) 5(20,-5) 5(20,0) 6(25,-5) 6(25,0) 7(30,-5) 7(30,0) 8(35,-5) 8(35,0) 9(40,-5) 9(40,0) 10(45,-5) 10(45,0) 11(50,-5) 11(50,0) 12(55,-5) 12(55,0) 13(60,-5) 13(60,0) 14(65,-5) 14(65,0) 15(70,-5) 15(70,0) 16(75,-5) 16(75,0) 17(80,-5) 17(80,0) 18(85,-5) 18(85,0) 19(90,-5) 19(90,0) 20(95,-5) 20(95,0) 21(100,-5) 21(100,0) 22(105,-5) 22(105,0) 23(110,-5) 23(110,0) 24(115,-5) 24(115,0)
F.SilkS:
  drawing of 465 lines, arcs and shapes, not listed
F.Fab:
  drawing of 392 lines, arcs and shapes, not listed
  text "'.Designator'" at 53.603,-1.84 h1
F.CrtYd:
  lines w0.254: -4,-9.5 -4,5.5 119.3,5.5 119.3,-9.5 -4,-9.5